# EAGLE library part BPFILTER (library My_Library_RADAR)
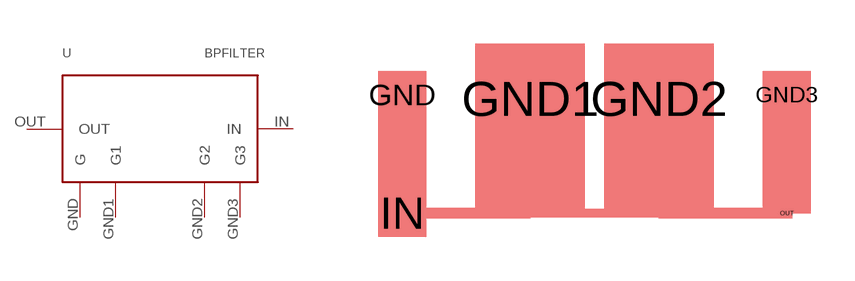
[diagram p8: symbol with the pads of STUB; footprint STUB]

Designator prefix -

## BPFILTER  [STUB]
GND  G
GND1  G1
GND2  G2
GND3  G3
IN  IN
OUT  OUT

## Footprint STUB (pad centres in mm)
smd 1.631 x 1.631: GND 0,4.056; GND3 13.154,4.056; IN 0,0
smd 3.748 x 3.748: GND1 4.372,3.931; GND2 8.782,3.931
smd 0.365 x 0.365: OUT 13.154,0